# Altium schematic symbol library PersonalAltiumLibrary.SchLib: 35 symbols
Pins are listed as number, name and electrical type; pins without a type are passive.

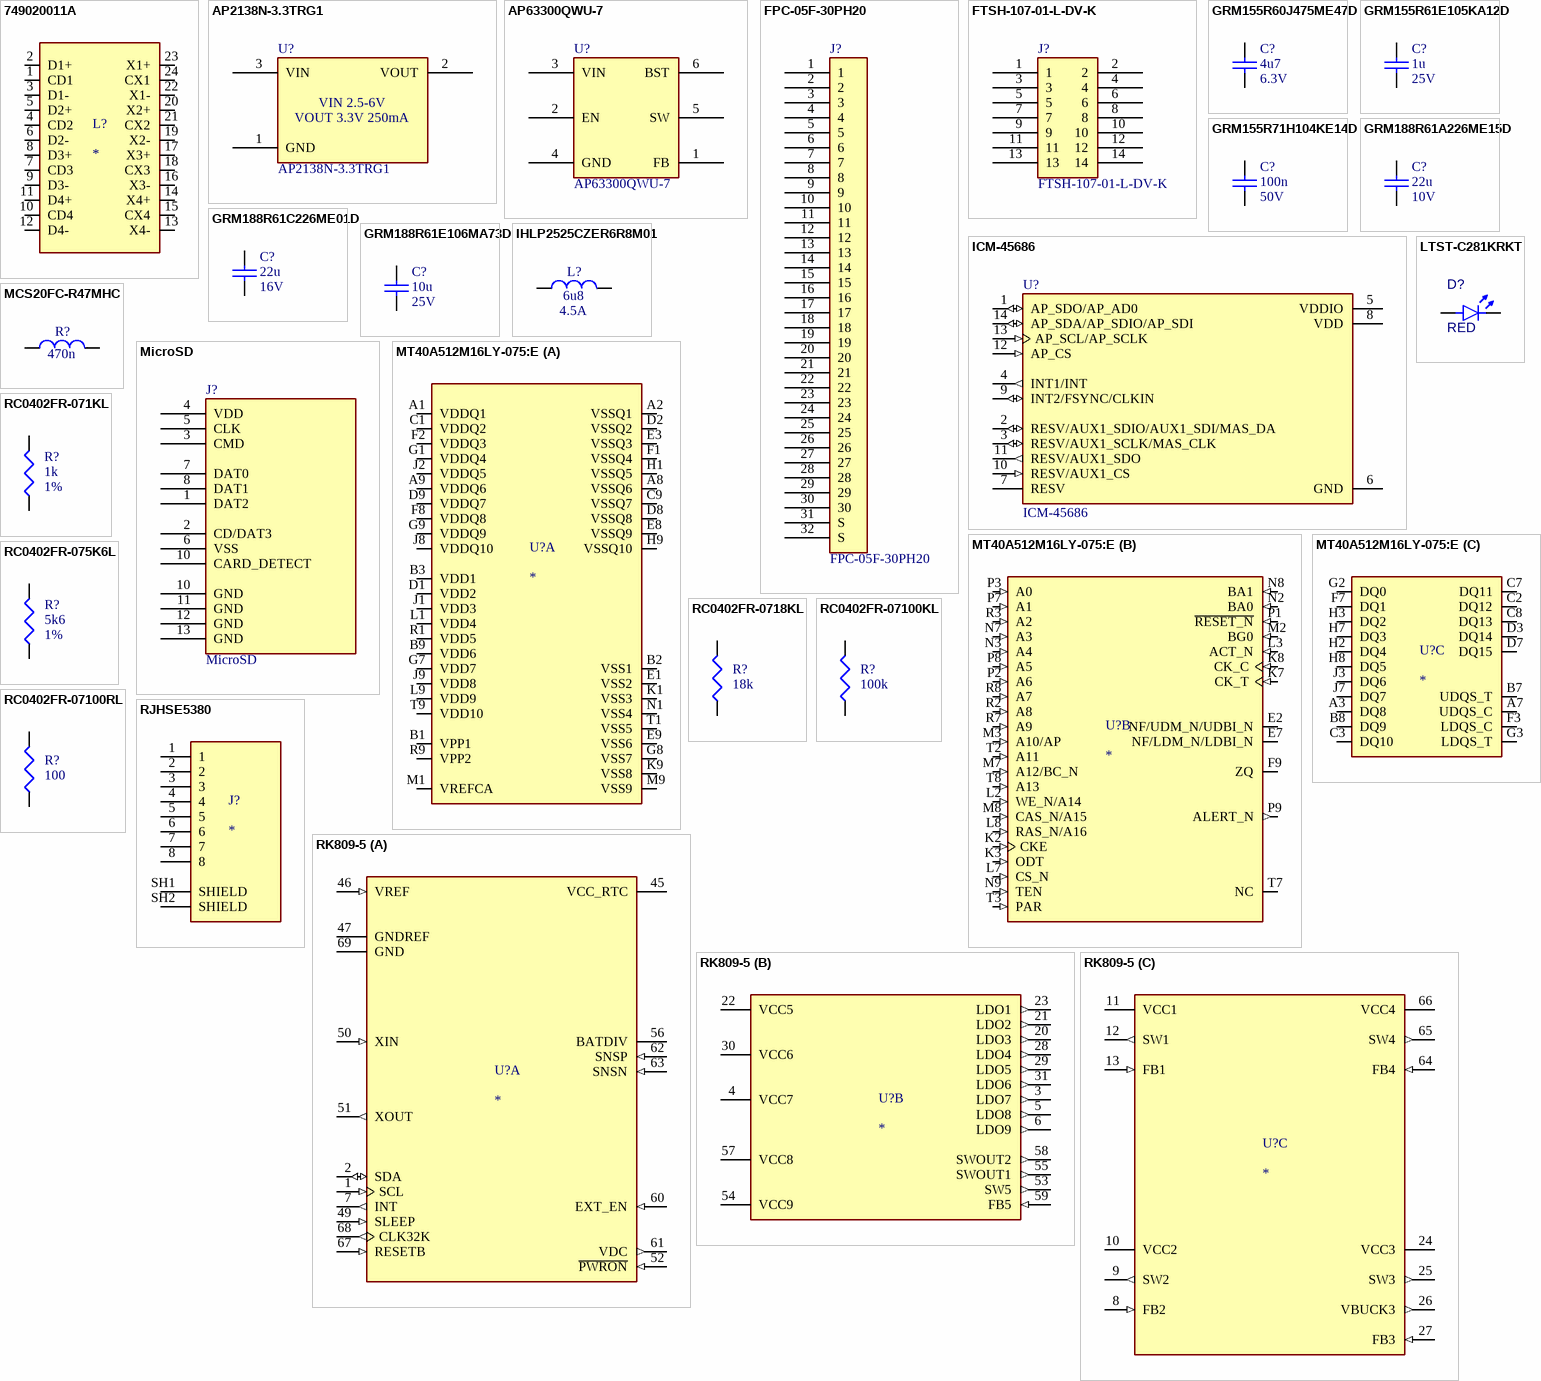
[diagram p0: symbols 749020011A to RK809-5]

## 749020011A
designator L?
1000BASE-T LAN transformer, SMD, 24pin, pitch 1.27mm, -40Â°C to +85Â°C, 1.5KVrms isolation, HPLE; MF: Wurth Electronics; MP: 749020011A; SnapEDA_Link: https://www.snapeda.com/parts/749020011A/Wurth+Electronics/view-part/?ref=snap; Package: None; Value: *; Check_prices: https://www.snapeda.com/parts/749020011A/Wurth+Electronics/view-part/?ref=eda
footprint WE-LAN_749020011A
pins: 1 CD1, 2 D1+, 3 D1-, 4 CD2, 5 D2+, 6 D2-, 7 CD3, 8 D3+, 9 D3-, 10 CD4, 11 D4+, 12 D4-, 13 X4-, 14 X4+, 15 CX4, 16 X3-, 17 X3+, 18 CX3, 19 X2-, 20 X2+, 21 CX2, 22 X1-, 23 X1+, 24 CX1

## AP2138N-3.3TRG1
designator U?
LDO 3.3V 250mA; Manufacturer Part Number 1: AP2138N-3.3TRG1
footprint AP2138N-3.3TRG1 (SOT23, 3-Leads, Body 2.9x1.3mm, Pitch 0.95mm)
pins: 1 GND, 2 VOUT, 3 VIN
text: VIN 2.5-6V; VOUT 3.3V 250mA

## AP63300QWU-7
designator U?
BUCK 3A; Manufacturer Part Number 1: AP63300QWU-7
footprint AP63300QWU-7
pins: 1 FB, 2 EN, 3 VIN, 4 GND, 5 SW, 6 BST

## FPC-05F-30PH20
designator J?
pins: 1, 2, 3, 4, 5, 6, 7, 8, 9, 10, 11, 12, 13, 14, 15, 16, 17, 18, 19, 20, 21, 22, 23, 24, 25, 26, 27, 28, 29, 30, 31 S, 32 S

## FTSH-107-01-L-DV-K
designator J?
footprint FTSH-107-01-L-DV-K
pins: 1, 2, 3, 4, 5, 6, 7, 8, 9, 10, 11, 12, 13, 14

## GRM155R60J475ME47D
designator C?  value 4u7  Voltage: 6.3V
CAP 4.7U 6.3V X5R 0402; Manufacturer Part Number 1: GRM155R60J475ME47D; Size: 0402; Dielectric: X5R
footprint GRM155R60J475ME47D (Chip Capacitor, Body 1.0x0.5mm, Height 0.6mm, IPC High Density)
pins: 1, 2

## GRM155R61E105KA12D
designator C?  value 1u  Voltage: 25V
CAP 1U 25V X5R 0402; Manufacturer Part Number 1: GRM155R61E105KA12D; Size: 0402; Dielectric: X5R
footprint GRM155R61E105KA12D (Chip Capacitor, Body 1.0x0.5mm, Height 0.6mm, IPC High Density)
pins: 1, 2

## GRM155R71H104KE14D
designator C?  value 100n  Voltage: 50V
CAP 100N 50V X7R 0402; Manufacturer Part Number 1: GRM155R71H104KE14D; Size: 0402; Dielectric: X7R
footprint GRM155R71H104KE14D (Chip Capacitor, Body 1.0x0.5mm, Height 0.6mm, IPC High Density)
pins: 1, 2

## GRM188R61A226ME15D
designator C?  value 22u  Voltage: 10V
CAP 22U 10V X5R 0603; Manufacturer Part Number 1: GRM188R61A226ME15D; Size: 0603; Dielectric: X5R
footprint GRM188R61A226ME15D (Chip Capacitor, Body 1.6x0.8mm, Height 1.0mm, IPC High Density)
pins: 1, 2

## GRM188R61C226ME01D
designator C?  value 22u  Voltage: 16V
CAP 22U 16V X5R 0603; Manufacturer Part Number 1: GRM188R61C226ME01D; Size: 0603; Dielectric: X5R
footprint GRM188R61C226ME01D (Chip Capacitor, Body 1.6x0.8mm, Height 1.0mm, IPC High Density)
pins: 1, 2

## GRM188R61E106MA73D
designator C?  value 10u  Voltage: 25V
CAP 10U 25V X5R 0603; Size: 0603; Dielectric: X5R
pins: 1, 2

## ICM-45686
designator U?
Accelerometer, Gyroscope, 6 Axis Sensor I2C, I3C, SPI Output; Manufacturer Part Number 1: ICM-45686
footprint ICM-45686
pins: 1 AP_SDO/AP_AD0 (io), 2 RESV/AUX1_SDIO/AUX1_SDI/MAS_DA (io), 3 RESV/AUX1_SCLK/MAS_CLK (io), 4 INT1/INT (out), 5 VDDIO (power), 6 GND (power), 7 RESV, 8 VDD (power), 9 INT2/FSYNC/CLKIN (io), 10 RESV/AUX1_CS (in), 11 RESV/AUX1_SDO (out), 12 AP_CS (in), 13 AP_SCL/AP_SCLK (in), 14 AP_SDA/AP_SDIO/AP_SDI (io)

## IHLP2525CZER6R8M01
designator L?  value 6u8  Current Rating: 4.5A
IND 6.8U 4.5A 60m; Manufacturer Part Number 1: IHLP2525CZER6R8M01
footprint IHLP2525CZER6R8M01
pins: 1, 2

## LTST-C281KRKT
designator D?, comment RED
LED RED; Manufacturer Part Number 1: LTST-C281KRKT; Size: 0402; Colour: RED
footprint LTST-C281KRKT (SMD, 2-Leads, Body 1x0.5mm)
pins: 1 K, 2 A

## MCS20FC-R47MHC
designator R?  value 470n
IND 470N 4.05A 0806
pins: 1, 2

## MicroSD
designator J?
pins: 1 DAT2, 2 CD/DAT3, 3 CMD, 4 VDD, 5 CLK, 6 VSS, 7 DAT0, 8 DAT1, 10 CARD_DETECT, 10 GND, 11 GND, 12 GND, 13 GND

## MT40A512M16LY-075:E
designator U?
SDRAM - DDR4 Memory IC 8Gb (512M x 16) Parallel 1.33 GHz 96-FBGA (7.5x13.5); MF: Micron Technology Inc.; MP: MT40A512M16LY-075:E; SnapEDA_Link: https://www.snapeda.com/parts/MT40A512M16LY-075:E/Micron/view-part/?ref=snap; Package: TFBGA-96 Micron Technology; Value: *; Check_prices: https://www.snapeda.com/parts/MT40A512M16LY-075:E/Micron/view-part/?ref=eda
part A pins: A1 VDDQ1 (power), A2 VSSQ1 (power), A8 VSSQ6 (power), A9 VDDQ6 (power), B1 VPP1 (power), B2 VSS1 (power), B3 VDD1 (power), B9 VDD6 (power), C1 VDDQ2 (power), C9 VSSQ7 (power), D1 VDD2 (power), D2 VSSQ2 (power), D8 VSSQ8 (power), D9 VDDQ7 (power), E1 VSS2 (power), E3 VSSQ3 (power), E8 VSSQ9 (power), E9 VSS6 (power), F1 VSSQ4 (power), F2 VDDQ3 (power), F8 VDDQ8 (power), G1 VDDQ4 (power), G7 VDD7 (power), G8 VSS7 (power), G9 VDDQ9 (power), H1 VSSQ5 (power), H9 VSSQ10 (power), J1 VDD3 (power), J2 VDDQ5 (power), J8 VDDQ10 (power), J9 VDD8 (power), K1 VSS3 (power), K9 VSS8 (power), L1 VDD4 (power), L9 VDD9 (power), M1 VREFCA (power), M9 VSS9 (power), N1 VSS4 (power), R1 VDD5 (power), R9 VPP2 (power), T1 VSS5 (power), T9 VDD10 (power)
part B pins: E2 NF/UDM_N/UDBI_N (io), E7 NF/LDM_N/LDBI_N (io), F9 ZQ, K2 CKE (in), K3 ODT (in), K7 CK_T (in), K8 CK_C (in), L2 WE_N/A14 (in), L3 ACT_N (in), L7 CS_N (in), L8 RAS_N/A16 (in), M2 BG0 (in), M3 A10/AP (in), M7 A12/BC_N (in), M8 CAS_N/A15 (in), N2 BA0 (in), N3 A4 (in), N7 A3 (in), N8 BA1 (in), N9 TEN (in), P1 ~{RESET_N} (in), P2 A6 (in), P3 A0 (in), P7 A1 (in), P8 A5 (in), P9 ALERT_N (out), R2 A8 (in), R3 A2 (in), R7 A9 (in), R8 A7 (in), T2 A11 (in), T3 PAR (in), T7 NC, T8 A13 (in)
part C pins: A3 DQ8 (io), A7 UDQS_C (io), B7 UDQS_T (io), B8 DQ9 (io), C2 DQ12 (io), C3 DQ10 (io), C7 DQ11 (io), C8 DQ13 (io), D3 DQ14 (io), D7 DQ15 (io), F3 LDQS_C (io), F7 DQ1 (io), G2 DQ0 (io), G3 LDQS_T (io), H2 DQ4 (io), H3 DQ2 (io), H7 DQ3 (io), H8 DQ5 (io), J3 DQ6 (io), J7 DQ7 (io)

## RC0402FR-071KL
designator R?  value 1k  Tolerance: 1%
RES 1k 1% 62.5mW 0402; Manufacturer Part Number 1: RC0402FR-071KL; Size: 0603
footprint RC0402FR-071KL (Chip Resistor, 2-Leads, Body 1.05x0.55mm, IPC Low Density)
pins: 1, 2

## RC0402FR-075K6L
designator R?  value 5k6  Tolerance: 1%
RES 5.6k 1% 62.5mW 0402; Manufacturer Part Number 1: RC0402FR-075K6L; Size: 0603
footprint RC0402FR-075K6L (Chip Resistor, 2-Leads, Body 1.05x0.55mm, IPC Low Density)
pins: 1, 2

## RC0402FR-0718KL
designator R?  value 18k
RES 18k 1% 62.5mW 0402; Manufacturer Part Number 1: RC0402FR-0718KL; Size: 0603
footprint RC0402FR-0718KL (Chip Resistor, 2-Leads, Body 1.05x0.55mm, IPC Low Density)
pins: 1, 2

## RC0402FR-07100KL
designator R?  value 100k
RES 100k 1% 62.5mW 0402; Manufacturer Part Number 1: RC0402FR-07100KL; Size: 0603
footprint RC0402FR-07100KL (Chip Resistor, 2-Leads, Body 1.05x0.55mm, IPC Low Density)
pins: 1, 2

## RC0402FR-07100RL
designator R?  value 100
RES 100 1% 0402; Manufacturer Part Number 1: RC0402FR-07100RL; Size: 0603
footprint RC0402FR-07100RL (Chip Resistor, 2-Leads, Body 1.05x0.55mm, IPC Low Density)
pins: 1, 2

## RJHSE5380
designator J?
MF: Amphenol; MP: RJHSE5380; Package: None; Price: None; Value: *; Availability: Unavailable
footprint AMPHENOL_RJHSE5380
pins: 1, 2, 3, 4, 5, 6, 7, 8, SH1 SHIELD, SH2 SHIELD

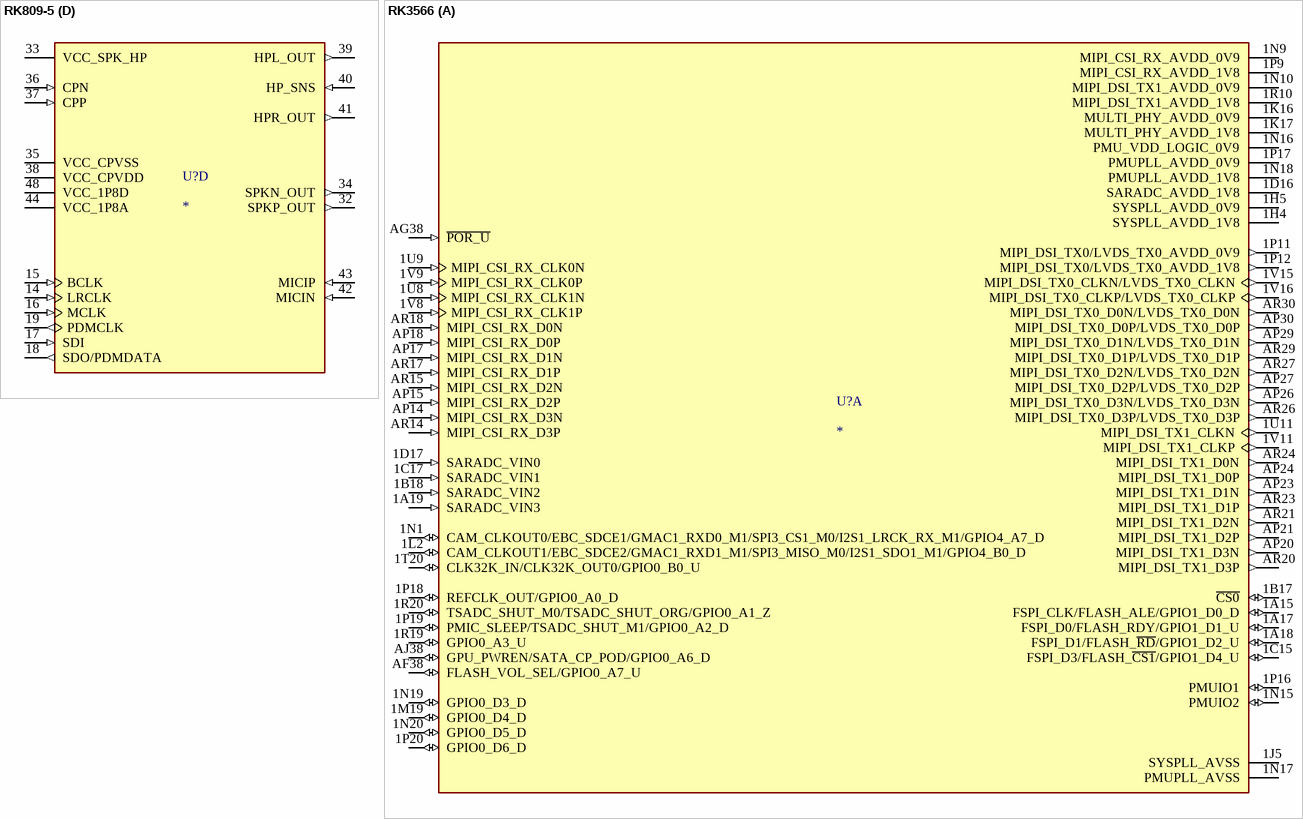
[diagram p1: symbols RK809-5 to RK3566]

## RK809-5
designator U?
Complex power-management integrated circuit (PMIC) integratedCODEC for multi-core system applications; MF: Fuzhou Rockchip Electronics Co; MP: RK809-1; SnapEDA_Link: https://www.snapeda.com/parts/RK809-1/Fuzhou+Rockchip+Electronics+Co/view-part/?ref=snap; Package: Package; Value: *; Check_prices: https://www.snapeda.com/parts/RK809-1/Fuzhou+Rockchip+Electronics+Co/view-part/?ref=eda
footprint QFN35P700X700X80-69N
part A pins: 1 SCL (in), 2 SDA (io), 7 INT (out), 45 VCC_RTC (power), 46 VREF (in), 47 GNDREF (power), 49 SLEEP (in), 50 XIN (in), 51 XOUT (out), 52 ~{PWRON} (in), 56 BATDIV (power), 60 EXT_EN (in), 61 VDC (out), 62 SNSP (in), 63 SNSN (in), 67 RESETB (in), 68 CLK32K (out), 69 GND (power)
part B pins: 3 LDO7 (out), 4 VCC7 (power), 5 LDO8 (out), 6 LDO9 (out), 20 LDO3 (out), 21 LDO2 (out), 22 VCC5 (power), 23 LDO1 (out), 28 LDO4 (out), 29 LDO5 (out), 30 VCC6 (power), 31 LDO6 (out), 53 SW5 (out), 54 VCC9 (power), 55 SWOUT1 (out), 57 VCC8 (power), 58 SWOUT2 (out), 59 FB5 (in)
part C pins: 8 FB2 (in), 9 SW2 (out), 10 VCC2 (power), 11 VCC1 (power), 12 SW1 (out), 13 FB1 (in), 24 VCC3 (power), 25 SW3 (out), 26 VBUCK3 (out), 27 FB3 (in), 64 FB4 (in), 65 SW4 (out), 66 VCC4 (power)
part D pins: 14 LRCLK (in), 15 BCLK (in), 16 MCLK (in), 17 SDI (in), 18 SDO/PDMDATA (out), 19 PDMCLK (out), 32 SPKP_OUT (out), 33 VCC_SPK_HP (power), 34 SPKN_OUT (out), 35 VCC_CPVSS (power), 36 CPN (in), 37 CPP (in), 38 VCC_CPVDD (power), 39 HPL_OUT (out), 40 HP_SNS (in), 41 HPR_OUT (out), 42 MICIN (in), 43 MICIP (in), 44 VCC_1P8A (power), 48 VCC_1P8D (power)

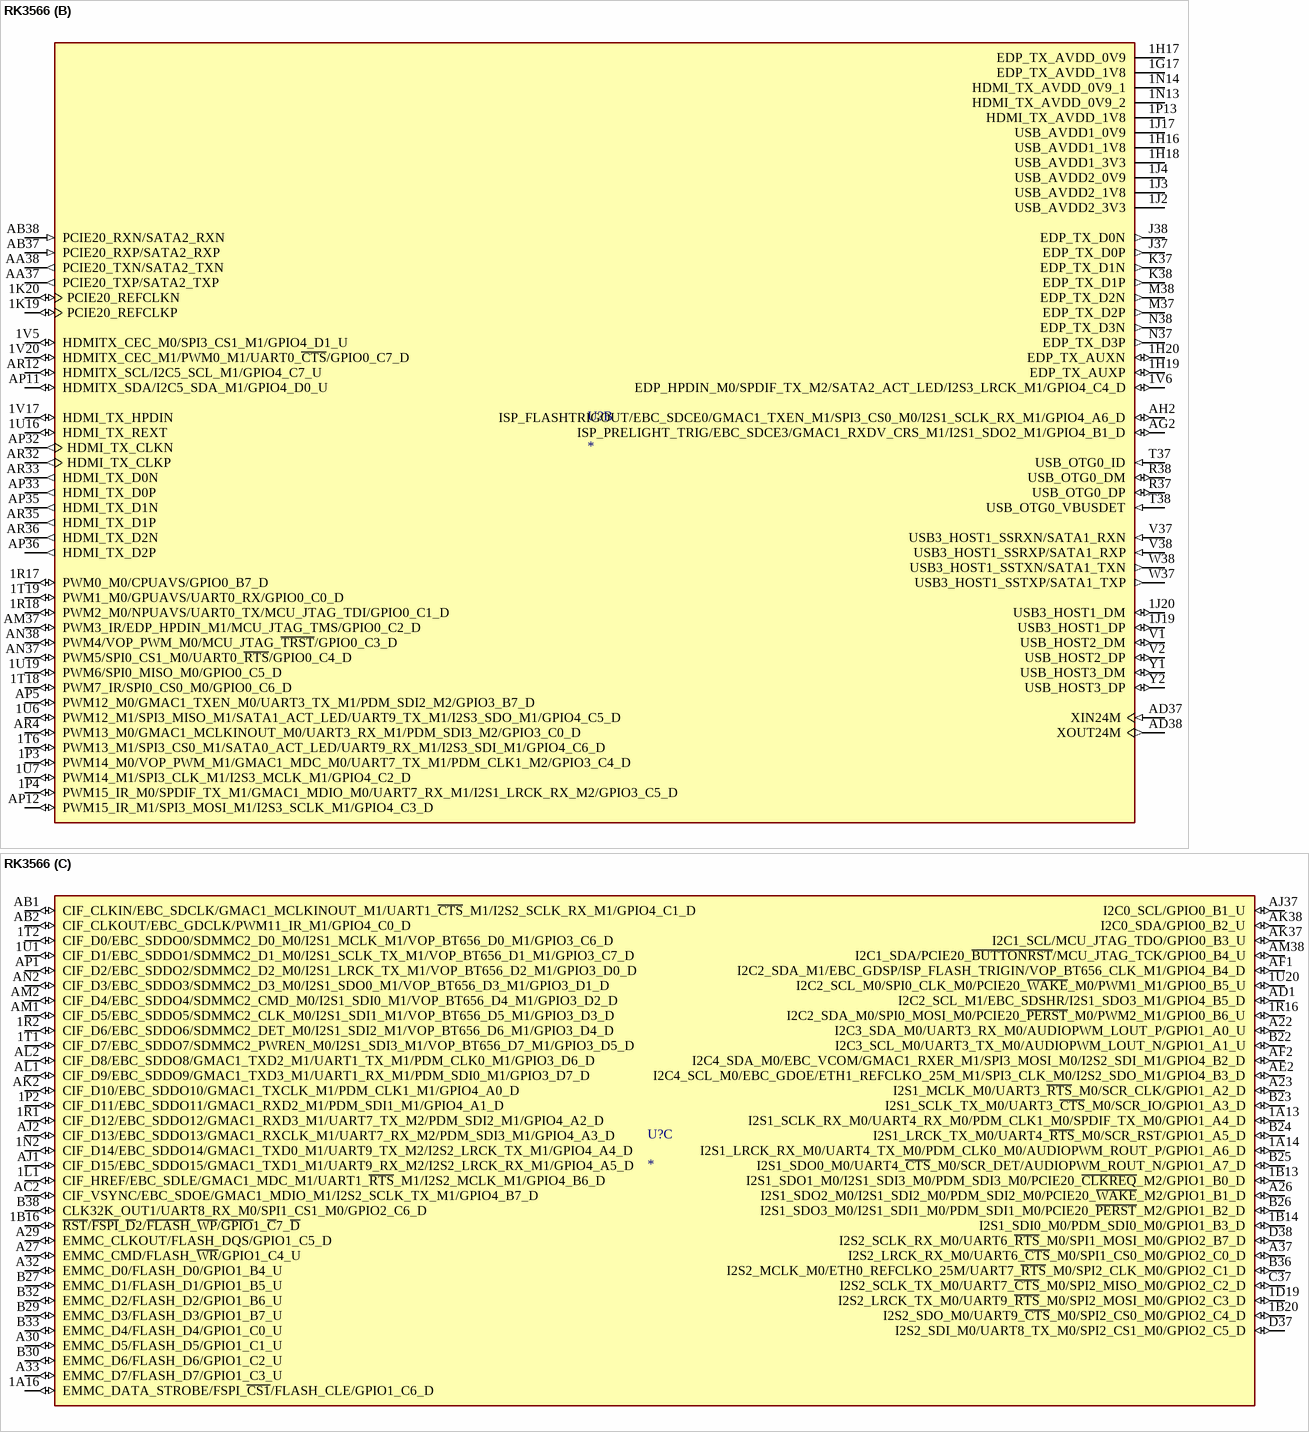
[diagram p2: symbol RK3566]

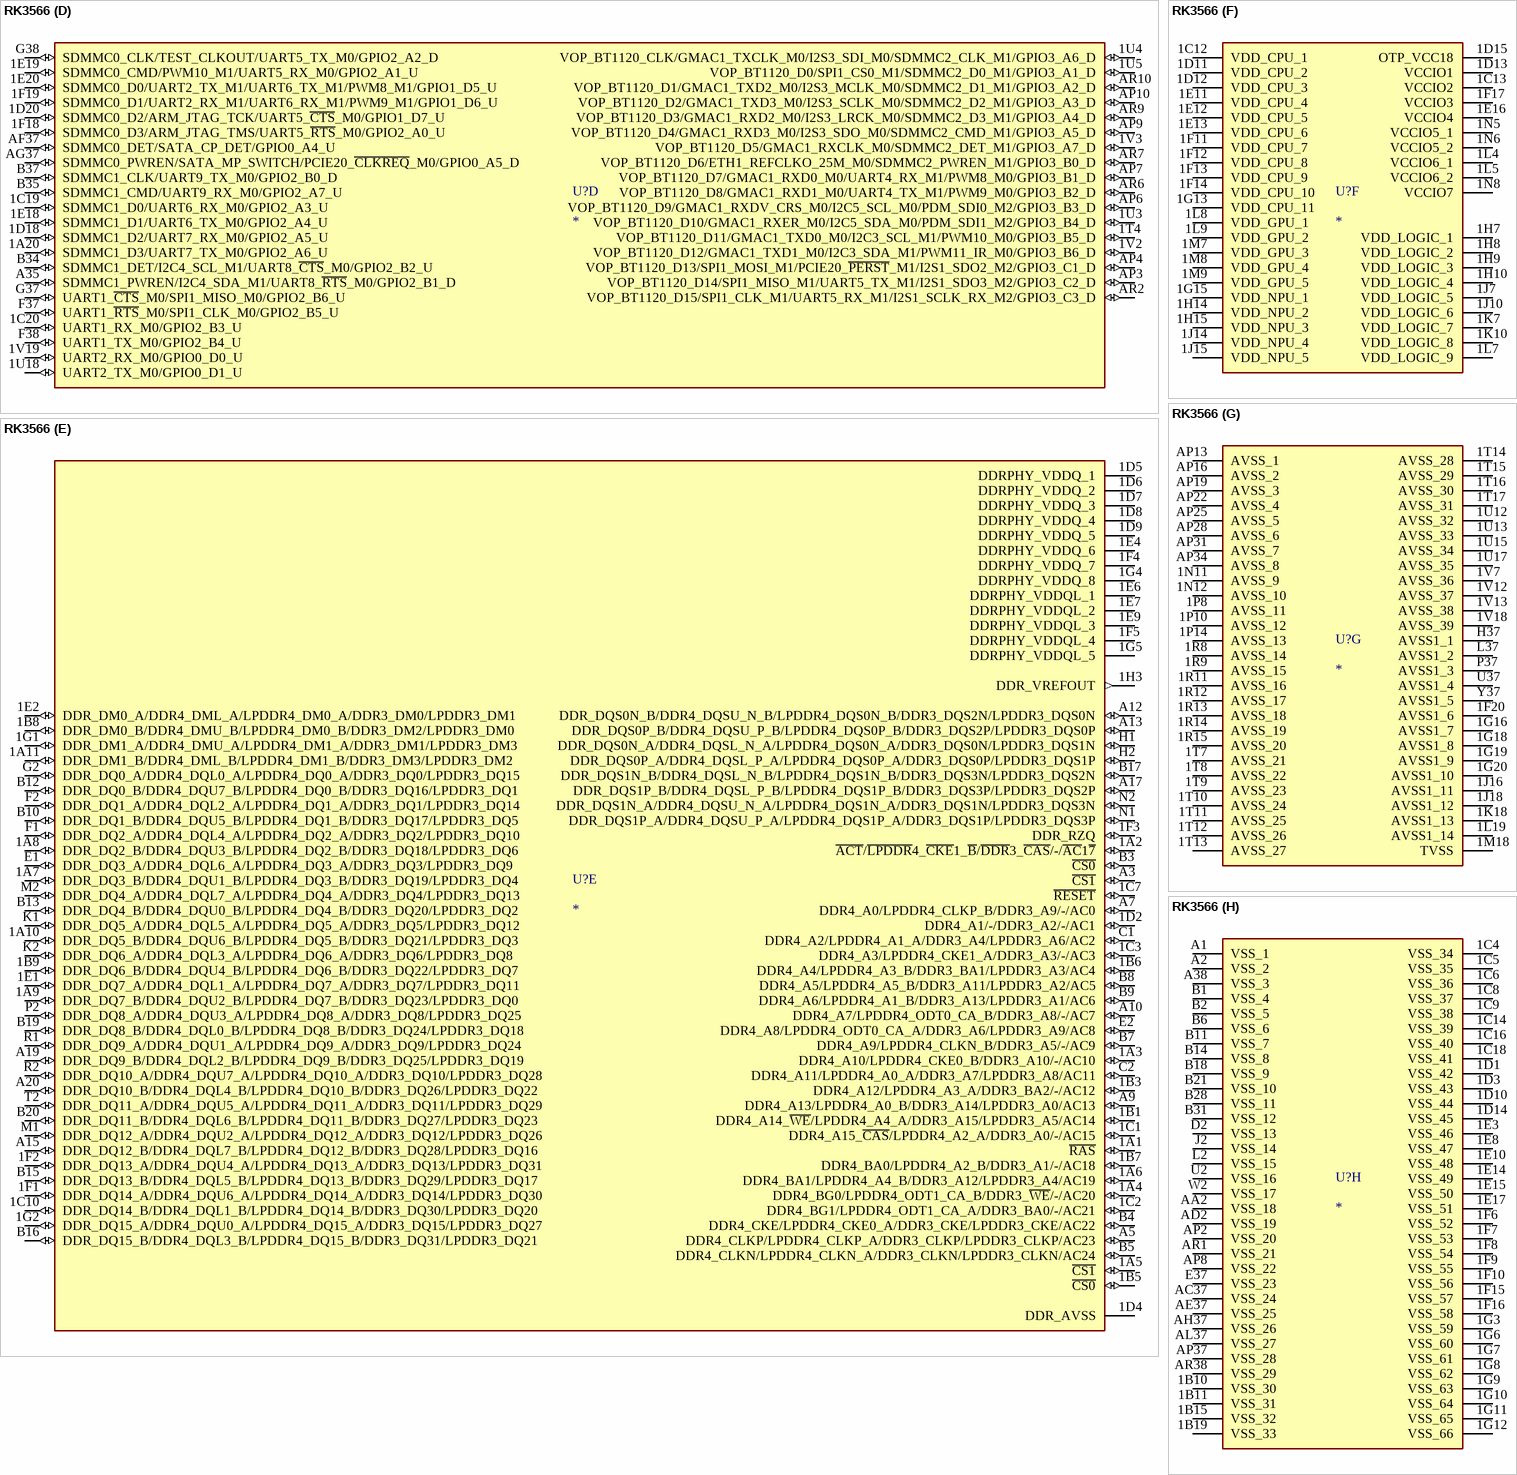
[diagram p3: symbol RK3566]

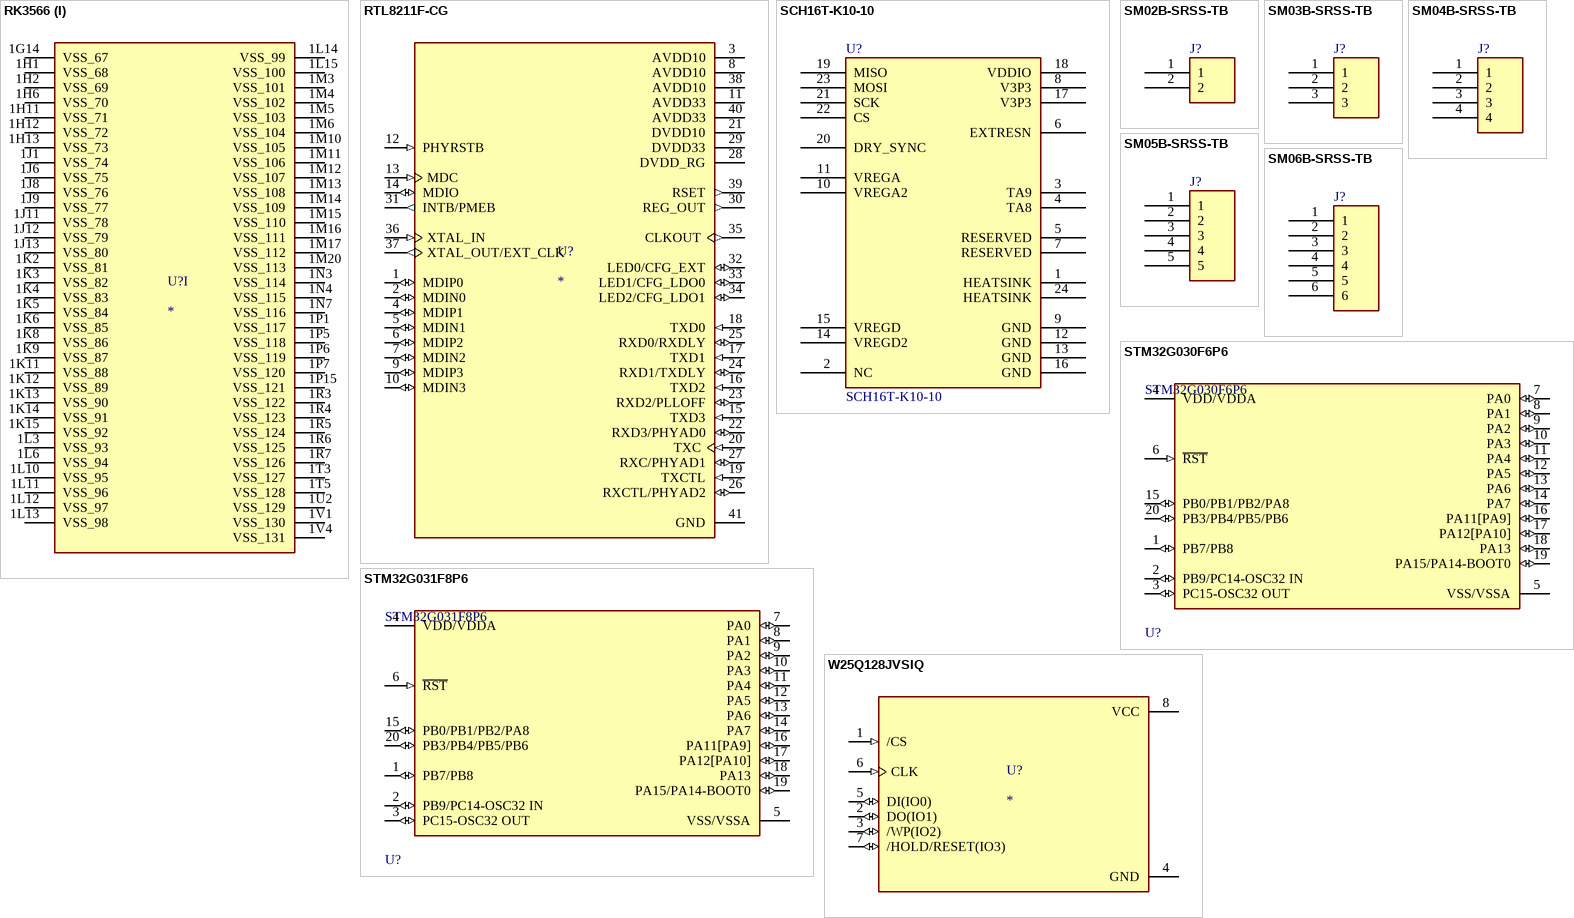
[diagram p4: symbols RK3566 to W25Q128JVSIQ]

## RK3566
designator U?
high-performance and low-power quad-core application processor; MF: Fuzhou Rockchip Electronics Co; MP: RK3566; SnapEDA_Link: https://www.snapeda.com/parts/RK3566/Fuzhou+Rockchip+Electronics+Co/view-part/?ref=snap; Package: None; Value: *; Check_prices: https://www.snapeda.com/parts/RK3566/Fuzhou+Rockchip+Electronics+Co/view-part/?ref=eda
footprint RK3566
part A pins: 1A15 FSPI_CLK/FLASH_ALE/GPIO1_D0_D (io), 1A17 FSPI_D0/FLASH_RDY/GPIO1_D1_U (io), 1A18 FSPI_D1/FLASH_~{RD}/GPIO1_D2_U (io), 1A19 SARADC_VIN3 (in), 1B17 ~{CS0} (io), 1B18 SARADC_VIN2 (in), 1C15 FSPI_D3/FLASH_~{CS1}/GPIO1_D4_U (io), 1C17 SARADC_VIN1 (in), 1D16 SARADC_AVDD_1V8 (power), 1D17 SARADC_VIN0 (in), 1H4 SYSPLL_AVDD_1V8 (power), 1H5 SYSPLL_AVDD_0V9 (power), 1J5 SYSPLL_AVSS (power), 1K16 MULTI_PHY_AVDD_0V9 (power), 1K17 MULTI_PHY_AVDD_1V8 (power), 1L2 CAM_CLKOUT1/EBC_SDCE2/GMAC1_RXD1_M1/SPI3_MISO_M0/I2S1_SDO1_M1/GPIO4_B0_D (io), 1M19 GPIO0_D4_D (io), 1N1 CAM_CLKOUT0/EBC_SDCE1/GMAC1_RXD0_M1/SPI3_CS1_M0/I2S1_LRCK_RX_M1/GPIO4_A7_D (io), 1N9 MIPI_CSI_RX_AVDD_0V9 (power), 1N10 MIPI_DSI_TX1_AVDD_0V9 (power), 1N15 PMUIO2 (io), 1N16 PMU_VDD_LOGIC_0V9 (power), 1N17 PMUPLL_AVSS (power), 1N18 PMUPLL_AVDD_1V8 (power), 1N19 GPIO0_D3_D (io), 1N20 GPIO0_D5_D (io), 1P9 MIPI_CSI_RX_AVDD_1V8 (power), 1P11 MIPI_DSI_TX0/LVDS_TX0_AVDD_0V9 (out), 1P12 MIPI_DSI_TX0/LVDS_TX0_AVDD_1V8 (out), 1P16 PMUIO1 (io), 1P17 PMUPLL_AVDD_0V9 (power), 1P18 REFCLK_OUT/GPIO0_A0_D (io), 1P19 PMIC_SLEEP/TSADC_SHUT_M1/GPIO0_A2_D (io), 1P20 GPIO0_D6_D (io), 1R10 MIPI_DSI_TX1_AVDD_1V8 (power), 1R19 GPIO0_A3_U (io), 1R20 TSADC_SHUT_M0/TSADC_SHUT_ORG/GPIO0_A1_Z (io), 1T20 CLK32K_IN/CLK32K_OUT0/GPIO0_B0_U (io), 1U8 MIPI_CSI_RX_CLK1N (in), 1U9 MIPI_CSI_RX_CLK0N (in), 1U11 MIPI_DSI_TX1_CLKN (out), 1V8 MIPI_CSI_RX_CLK1P (in), 1V9 MIPI_CSI_RX_CLK0P (in), 1V11 MIPI_DSI_TX1_CLKP (out), 1V15 MIPI_DSI_TX0_CLKN/LVDS_TX0_CLKN (out), 1V16 MIPI_DSI_TX0_CLKP/LVDS_TX0_CLKP (out), AF38 FLASH_VOL_SEL/GPIO0_A7_U (io), AG38 ~{POR_U} (in), AJ38 GPU_PWREN/SATA_CP_POD/GPIO0_A6_D (io), AP14 MIPI_CSI_RX_D3N (in), AP15 MIPI_CSI_RX_D2P (in), AP17 MIPI_CSI_RX_D1N (in), AP18 MIPI_CSI_RX_D0P (in), AP20 MIPI_DSI_TX1_D3N (out), AP21 MIPI_DSI_TX1_D2P (out), AP23 MIPI_DSI_TX1_D1N (out), AP24 MIPI_DSI_TX1_D0P (out), AP26 MIPI_DSI_TX0_D3N/LVDS_TX0_D3N (out), AP27 MIPI_DSI_TX0_D2P/LVDS_TX0_D2P (out), AP29 MIPI_DSI_TX0_D1N/LVDS_TX0_D1N (out), AP30 MIPI_DSI_TX0_D0P/LVDS_TX0_D0P (out), AR14 MIPI_CSI_RX_D3P (in), AR15 MIPI_CSI_RX_D2N (in), AR17 MIPI_CSI_RX_D1P (in), AR18 MIPI_CSI_RX_D0N (in), AR20 MIPI_DSI_TX1_D3P (out), AR21 MIPI_DSI_TX1_D2N (out), AR23 MIPI_DSI_TX1_D1P (out), AR24 MIPI_DSI_TX1_D0N (out), AR26 MIPI_DSI_TX0_D3P/LVDS_TX0_D3P (out), AR27 MIPI_DSI_TX0_D2N/LVDS_TX0_D2N (out), AR29 MIPI_DSI_TX0_D1P/LVDS_TX0_D1P (out), AR30 MIPI_DSI_TX0_D0N/LVDS_TX0_D0N (out)
part B pins: 1G17 EDP_TX_AVDD_1V8 (power), 1H16 USB_AVDD1_1V8 (power), 1H17 EDP_TX_AVDD_0V9 (power), 1H18 USB_AVDD1_3V3 (power), 1H19 EDP_TX_AUXP (io), 1H20 EDP_TX_AUXN (io), 1J2 USB_AVDD2_3V3 (power), 1J3 USB_AVDD2_1V8 (power), 1J4 USB_AVDD2_0V9 (power), 1J17 USB_AVDD1_0V9 (power), 1J19 USB3_HOST1_DP (io), 1J20 USB3_HOST1_DM (io), 1K19 PCIE20_REFCLKP (io), 1K20 PCIE20_REFCLKN (io), 1N13 HDMI_TX_AVDD_0V9_2 (power), 1N14 HDMI_TX_AVDD_0V9_1 (power), 1P3 PWM14_M0/VOP_PWM_M1/GMAC1_MDC_M0/UART7_TX_M1/PDM_CLK1_M2/GPIO3_C4_D (io), 1P4 PWM15_IR_M0/SPDIF_TX_M1/GMAC1_MDIO_M0/UART7_RX_M1/I2S1_LRCK_RX_M2/GPIO3_C5_D (io), 1P13 HDMI_TX_AVDD_1V8 (power), 1R17 PWM0_M0/CPUAVS/GPIO0_B7_D (io), 1R18 PWM2_M0/NPUAVS/UART0_TX/MCU_JTAG_TDI/GPIO0_C1_D (io), 1T6 PWM13_M1/SPI3_CS0_M1/SATA0_ACT_LED/UART9_RX_M1/I2S3_SDI_M1/GPIO4_C6_D (io), 1T18 PWM7_IR/SPI0_CS0_M0/GPIO0_C6_D (io), 1T19 PWM1_M0/GPUAVS/UART0_RX/GPIO0_C0_D (io), 1U6 PWM12_M1/SPI3_MISO_M1/SATA1_ACT_LED/UART9_TX_M1/I2S3_SDO_M1/GPIO4_C5_D (io), 1U7 PWM14_M1/SPI3_CLK_M1/I2S3_MCLK_M1/GPIO4_C2_D (io), 1U16 HDMI_TX_REXT (io), 1U19 PWM6/SPI0_MISO_M0/GPIO0_C5_D (io), 1V5 HDMITX_CEC_M0/SPI3_CS1_M1/GPIO4_D1_U (io), 1V6 EDP_HPDIN_M0/SPDIF_TX_M2/SATA2_ACT_LED/I2S3_LRCK_M1/GPIO4_C4_D (io), 1V17 HDMI_TX_HPDIN (io), 1V20 HDMITX_CEC_M1/PWM0_M1/UART0_~{CTS}/GPIO0_C7_D (io), AA37 PCIE20_TXP/SATA2_TXP (out), AA38 PCIE20_TXN/SATA2_TXN (out), AB37 PCIE20_RXP/SATA2_RXP (in), AB38 PCIE20_RXN/SATA2_RXN (in), AD37 XIN24M (in), AD38 XOUT24M (out), AG2 ISP_PRELIGHT_TRIG/EBC_SDCE3/GMAC1_RXDV_CRS_M1/I2S1_SDO2_M1/GPIO4_B1_D (io), AH2 ISP_FLASHTRIGOUT/EBC_SDCE0/GMAC1_TXEN_M1/SPI3_CS0_M0/I2S1_SCLK_RX_M1/GPIO4_A6_D (io), AM37 PWM3_IR/EDP_HPDIN_M1/MCU_JTAG_TMS/GPIO0_C2_D (io), AN37 PWM5/SPI0_CS1_M0/UART0_~{RTS}/GPIO0_C4_D (io), AN38 PWM4/VOP_PWM_M0/MCU_JTAG_~{TRST}/GPIO0_C3_D (io), AP5 PWM12_M0/GMAC1_TXEN_M0/UART3_TX_M1/PDM_SDI2_M2/GPIO3_B7_D (io), AP11 HDMITX_SDA/I2C5_SDA_M1/GPIO4_D0_U (io), AP12 PWM15_IR_M1/SPI3_MOSI_M1/I2S3_SCLK_M1/GPIO4_C3_D (io), AP32 HDMI_TX_CLKN (out), AP33 HDMI_TX_D0P (out), AP35 HDMI_TX_D1N (out), AP36 HDMI_TX_D2P (out), AR4 PWM13_M0/GMAC1_MCLKINOUT_M0/UART3_RX_M1/PDM_SDI3_M2/GPIO3_C0_D (io), AR12 HDMITX_SCL/I2C5_SCL_M1/GPIO4_C7_U (io), AR32 HDMI_TX_CLKP (out), AR33 HDMI_TX_D0N (out), AR35 HDMI_TX_D1P (out), AR36 HDMI_TX_D2N (out), J37 EDP_TX_D0P (out), J38 EDP_TX_D0N (out), K37 EDP_TX_D1N (out), K38 EDP_TX_D1P (out), M37 EDP_TX_D2P (out), M38 EDP_TX_D2N (out), N37 EDP_TX_D3P (out), N38 EDP_TX_D3N (out), R37 USB_OTG0_DP (io), R38 USB_OTG0_DM (io), T37 USB_OTG0_ID (in), T38 USB_OTG0_VBUSDET (in), V1 USB_HOST2_DM (io), V2 USB_HOST2_DP (io), V37 USB3_HOST1_SSRXN/SATA1_RXN (in), V38 USB3_HOST1_SSRXP/SATA1_RXP (in), W37 USB3_HOST1_SSTXP/SATA1_TXP (out), W38 USB3_HOST1_SSTXN/SATA1_TXN (out), Y1 USB_HOST3_DM (io), Y2 USB_HOST3_DP (io)
part C pins: 1A13 I2S1_SCLK_RX_M0/UART4_RX_M0/PDM_CLK1_M0/SPDIF_TX_M0/GPIO1_A4_D (io), 1A14 I2S1_LRCK_RX_M0/UART4_TX_M0/PDM_CLK0_M0/AUDIOPWM_ROUT_P/GPIO1_A6_D (io), 1A16 EMMC_DATA_STROBE/FSPI_~{CS1}/FLASH_CLE/GPIO1_C6_D (io), 1B13 I2S1_SDO1_M0/I2S1_SDI3_M0/PDM_SDI3_M0/PCIE20_~{CLKREQ}_M2/GPIO1_B0_D (io), 1B14 I2S1_SDI0_M0/PDM_SDI0_M0/GPIO1_B3_D (io), 1B16 ~{RST}/~{FSPI}_~{D}2/~{FLASH}_~{WP}/~{GPIO}1_~{C}7_~{D} (io), 1B20 I2S2_SDO_M0/UART9_~{CTS}_M0/SPI2_CS0_M0/GPIO2_C4_D (io), 1D19 I2S2_LRCK_TX_M0/UART9_~{RTS}_M0/SPI2_MOSI_M0/GPIO2_C3_D (io), 1L1 CIF_HREF/EBC_SDLE/GMAC1_MDC_M1/UART1_~{RTS}_M1/I2S2_MCLK_M1/GPIO4_B6_D (io), 1N2 CIF_D14/EBC_SDDO14/GMAC1_TXD0_M1/UART9_TX_M2/I2S2_LRCK_TX_M1/GPIO4_A4_D (io), 1P2 CIF_D11/EBC_SDDO11/GMAC1_RXD2_M1/PDM_SDI1_M1/GPIO4_A1_D (io), 1R1 CIF_D12/EBC_SDDO12/GMAC1_RXD3_M1/UART7_TX_M2/PDM_SDI2_M1/GPIO4_A2_D (io), 1R2 CIF_D6/EBC_SDDO6/SDMMC2_DET_M0/I2S1_SDI2_M1/VOP_BT656_D6_M1/GPIO3_D4_D (io), 1R16 I2C2_SDA_M0/SPI0_MOSI_M0/PCIE20_~{PERST}_M0/PWM2_M1/GPIO0_B6_U (io), 1T1 CIF_D7/EBC_SDDO7/SDMMC2_PWREN_M0/I2S1_SDI3_M1/VOP_BT656_D7_M1/GPIO3_D5_D (io), 1T2 CIF_D0/EBC_SDDO0/SDMMC2_D0_M0/I2S1_MCLK_M1/VOP_BT656_D0_M1/GPIO3_C6_D (io), 1U1 CIF_D1/EBC_SDDO1/SDMMC2_D1_M0/I2S1_SCLK_TX_M1/VOP_BT656_D1_M1/GPIO3_C7_D (io), 1U20 I2C2_SCL_M0/SPI0_CLK_M0/PCIE20_~{WAKE}_M0/PWM1_M1/GPIO0_B5_U (io), A22 I2C3_SDA_M0/UART3_RX_M0/AUDIOPWM_LOUT_P/GPIO1_A0_U (io), A23 I2S1_MCLK_M0/UART3_~{RTS}_M0/SCR_CLK/GPIO1_A2_D (io), A26 I2S1_SDO2_M0/I2S1_SDI2_M0/PDM_SDI2_M0/PCIE20_~{WAKE}_M2/GPIO1_B1_D (io), A27 EMMC_CMD/FLASH_~{WR}/GPIO1_C4_U (io), A29 EMMC_CLKOUT/FLASH_DQS/GPIO1_C5_D (io), A30 EMMC_D5/FLASH_D5/GPIO1_C1_U (io), A32 EMMC_D0/FLASH_D0/GPIO1_B4_U (io), A33 EMMC_D7/FLASH_D7/GPIO1_C3_U (io), A37 I2S2_LRCK_RX_M0/UART6_~{CTS}_M0/SPI1_CS0_M0/GPIO2_C0_D (io), AB1 CIF_CLKIN/EBC_SDCLK/GMAC1_MCLKINOUT_M1/UART1_~{CTS}_M1/I2S2_SCLK_RX_M1/GPIO4_C1_D (io), AB2 CIF_CLKOUT/EBC_GDCLK/PWM11_IR_M1/GPIO4_C0_D (io), AC2 CIF_VSYNC/EBC_SDOE/GMAC1_MDIO_M1/I2S2_SCLK_TX_M1/GPIO4_B7_D (io), AD1 I2C2_SCL_M1/EBC_SDSHR/I2S1_SDO3_M1/GPIO4_B5_D (io), AE2 I2C4_SCL_M0/EBC_GDOE/ETH1_REFCLKO_25M_M1/SPI3_CLK_M0/I2S2_SDO_M1/GPIO4_B3_D (io), AF1 I2C2_SDA_M1/EBC_GDSP/ISP_FLASH_TRIGIN/VOP_BT656_CLK_M1/GPIO4_B4_D (io), AF2 I2C4_SDA_M0/EBC_VCOM/GMAC1_RXER_M1/SPI3_MOSI_M0/I2S2_SDI_M1/GPIO4_B2_D (io), AJ1 CIF_D15/EBC_SDDO15/GMAC1_TXD1_M1/UART9_RX_M2/I2S2_LRCK_RX_M1/GPIO4_A5_D (io), AJ2 CIF_D13/EBC_SDDO13/GMAC1_RXCLK_M1/UART7_RX_M2/PDM_SDI3_M1/GPIO4_A3_D (io), AJ37 I2C0_SCL/GPIO0_B1_U (io), AK2 CIF_D10/EBC_SDDO10/GMAC1_TXCLK_M1/PDM_CLK1_M1/GPIO4_A0_D (io), AK37 I2C1_SCL/MCU_JTAG_TDO/GPIO0_B3_U (io), AK38 I2C0_SDA/GPIO0_B2_U (io), AL1 CIF_D9/EBC_SDDO9/GMAC1_TXD3_M1/UART1_RX_M1/PDM_SDI0_M1/GPIO3_D7_D (io), AL2 CIF_D8/EBC_SDDO8/GMAC1_TXD2_M1/UART1_TX_M1/PDM_CLK0_M1/GPIO3_D6_D (io), AM1 CIF_D5/EBC_SDDO5/SDMMC2_CLK_M0/I2S1_SDI1_M1/VOP_BT656_D5_M1/GPIO3_D3_D (io), AM2 CIF_D4/EBC_SDDO4/SDMMC2_CMD_M0/I2S1_SDI0_M1/VOP_BT656_D4_M1/GPIO3_D2_D (io), AM38 I2C1_SDA/PCIE20_~{BUTTONRST}/MCU_JTAG_TCK/GPIO0_B4_U (io), AN2 CIF_D3/EBC_SDDO3/SDMMC2_D3_M0/I2S1_SDO0_M1/VOP_BT656_D3_M1/GPIO3_D1_D (io), AP1 CIF_D2/EBC_SDDO2/SDMMC2_D2_M0/I2S1_LRCK_TX_M1/VOP_BT656_D2_M1/GPIO3_D0_D (io), B22 I2C3_SCL_M0/UART3_TX_M0/AUDIOPWM_LOUT_N/GPIO1_A1_U (io), B23 I2S1_SCLK_TX_M0/UART3_~{CTS}_M0/SCR_IO/GPIO1_A3_D (io), B24 I2S1_LRCK_TX_M0/UART4_~{RTS}_M0/SCR_RST/GPIO1_A5_D (io), B25 I2S1_SDO0_M0/UART4_~{CTS}_M0/SCR_DET/AUDIOPWM_ROUT_N/GPIO1_A7_D (io), B26 I2S1_SDO3_M0/I2S1_SDI1_M0/PDM_SDI1_M0/PCIE20_~{PERST}_M2/GPIO1_B2_D (io), B27 EMMC_D1/FLASH_D1/GPIO1_B5_U (io), B29 EMMC_D3/FLASH_D3/GPIO1_B7_U (io), B30 EMMC_D6/FLASH_D6/GPIO1_C2_U (io), B32 EMMC_D2/FLASH_D2/GPIO1_B6_U (io), B33 EMMC_D4/FLASH_D4/GPIO1_C0_U (io), B36 I2S2_MCLK_M0/ETH0_REFCLKO_25M/UART7_~{RTS}_M0/SPI2_CLK_M0/GPIO2_C1_D (io), B38 CLK32K_OUT1/UART8_RX_M0/SPI1_CS1_M0/GPIO2_C6_D (io), C37 I2S2_SCLK_TX_M0/UART7_~{CTS}_M0/SPI2_MISO_M0/GPIO2_C2_D (io), D37 I2S2_SDI_M0/UART8_TX_M0/SPI2_CS1_M0/GPIO2_C5_D (io), D38 I2S2_SCLK_RX_M0/UART6_~{RTS}_M0/SPI1_MOSI_M0/GPIO2_B7_D (io)
part D pins: 1A20 SDMMC1_D3/UART7_TX_M0/GPIO2_A6_U (io), 1C19 SDMMC1_D0/UART6_RX_M0/GPIO2_A3_U (io), 1C20 UART1_RX_M0/GPIO2_B3_U (io), 1D18 SDMMC1_D2/UART7_RX_M0/GPIO2_A5_U (io), 1D20 SDMMC0_D2/ARM_JTAG_TCK/UART5_~{CTS}_M0/GPIO1_D7_U (io), 1E18 SDMMC1_D1/UART6_TX_M0/GPIO2_A4_U (io), 1E19 SDMMC0_CMD/PWM10_M1/UART5_RX_M0/GPIO2_A1_U (io), 1E20 SDMMC0_D0/UART2_TX_M1/UART6_TX_M1/PWM8_M1/GPIO1_D5_U (io), 1F18 SDMMC0_D3/ARM_JTAG_TMS/UART5_~{RTS}_M0/GPIO2_A0_U (io), 1F19 SDMMC0_D1/UART2_RX_M1/UART6_RX_M1/PWM9_M1/GPIO1_D6_U (io), 1T4 VOP_BT1120_D11/GMAC1_TXD0_M0/I2C3_SCL_M1/PWM10_M0/GPIO3_B5_D (io), 1U3 VOP_BT1120_D10/GMAC1_RXER_M0/I2C5_SDA_M0/PDM_SDI1_M2/GPIO3_B4_D (io), 1U4 VOP_BT1120_CLK/GMAC1_TXCLK_M0/I2S3_SDI_M0/SDMMC2_CLK_M1/GPIO3_A6_D (io), 1U5 VOP_BT1120_D0/SPI1_CS0_M1/SDMMC2_D0_M1/GPIO3_A1_D (io), 1U18 UART2_TX_M0/GPIO0_D1_U (io), 1V2 VOP_BT1120_D12/GMAC1_TXD1_M0/I2C3_SDA_M1/PWM11_IR_M0/GPIO3_B6_D (io), 1V3 VOP_BT1120_D5/GMAC1_RXCLK_M0/SDMMC2_DET_M1/GPIO3_A7_D (io), 1V19 UART2_RX_M0/GPIO0_D0_U (io), A35 SDMMC1_PWREN/I2C4_SDA_M1/UART8_~{RTS}_M0/GPIO2_B1_D (io), AF37 SDMMC0_DET/SATA_CP_DET/GPIO0_A4_U (io), AG37 SDMMC0_PWREN/SATA_MP_SWITCH/PCIE20_~{CLKREQ}_M0/GPIO0_A5_D (io), AP3 VOP_BT1120_D14/SPI1_MISO_M1/UART5_TX_M1/I2S1_SDO3_M2/GPIO3_C2_D (io), AP4 VOP_BT1120_D13/SPI1_MOSI_M1/PCIE20_~{PERST}_M1/I2S1_SDO2_M2/GPIO3_C1_D (io), AP6 VOP_BT1120_D9/GMAC1_RXDV_CRS_M0/I2C5_SCL_M0/PDM_SDI0_M2/GPIO3_B3_D (io), AP7 VOP_BT1120_D7/GMAC1_RXD0_M0/UART4_RX_M1/PWM8_M0/GPIO3_B1_D (io), AP9 VOP_BT1120_D4/GMAC1_RXD3_M0/I2S3_SDO_M0/SDMMC2_CMD_M1/GPIO3_A5_D (io), AP10 VOP_BT1120_D2/GMAC1_TXD3_M0/I2S3_SCLK_M0/SDMMC2_D2_M1/GPIO3_A3_D (io), AR2 VOP_BT1120_D15/SPI1_CLK_M1/UART5_RX_M1/I2S1_SCLK_RX_M2/GPIO3_C3_D (io), AR6 VOP_BT1120_D8/GMAC1_RXD1_M0/UART4_TX_M1/PWM9_M0/GPIO3_B2_D (io), AR7 VOP_BT1120_D6/ETH1_REFCLKO_25M_M0/SDMMC2_PWREN_M1/GPIO3_B0_D (io), AR9 VOP_BT1120_D3/GMAC1_RXD2_M0/I2S3_LRCK_M0/SDMMC2_D3_M1/GPIO3_A4_D (io), AR10 VOP_BT1120_D1/GMAC1_TXD2_M0/I2S3_MCLK_M0/SDMMC2_D1_M1/GPIO3_A2_D (io), B34 SDMMC1_DET/I2C4_SCL_M1/UART8_~{CTS}_M0/GPIO2_B2_U (io), B35 SDMMC1_CMD/UART9_RX_M0/GPIO2_A7_U (io), B37 SDMMC1_CLK/UART9_TX_M0/GPIO2_B0_D (io), F37 UART1_~{RTS}_M0/SPI1_CLK_M0/GPIO2_B5_U (io), F38 UART1_TX_M0/GPIO2_B4_U (io), G37 UART1_~{CTS}_M0/SPI1_MISO_M0/GPIO2_B6_U (io), G38 SDMMC0_CLK/TEST_CLKOUT/UART5_TX_M0/GPIO2_A2_D (io)
part E pins: 1A1 ~{RAS} (io), 1A2 ~{ACT}/~{LPDDR}4_~{CKE}1_~{B}/~{DDR}3_~{CAS}/-/~{AC}1~{7} (io), 1A3 DDR4_A10/LPDDR4_CKE0_B/DDR3_A10/-/AC10 (io), 1A4 DDR4_BG0/LPDDR4_ODT1_CA_B/DDR3_~{WE}/-/AC20 (io), 1A5 ~{CS1} (io), 1A6 DDR4_BA1/LPDDR4_A4_B/DDR3_A12/LPDDR3_A4/AC19 (io), 1A7 DDR_DQ3_B/DDR4_DQU1_B/LPDDR4_DQ3_B/DDR3_DQ19/LPDDR3_DQ4 (io), 1A8 DDR_DQ2_B/DDR4_DQU3_B/LPDDR4_DQ2_B/DDR3_DQ18/LPDDR3_DQ6 (io), 1A9 DDR_DQ7_B/DDR4_DQU2_B/LPDDR4_DQ7_B/DDR3_DQ23/LPDDR3_DQ0 (io), 1A10 DDR_DQ5_B/DDR4_DQU6_B/LPDDR4_DQ5_B/DDR3_DQ21/LPDDR3_DQ3 (io), 1A11 DDR_DM1_B/DDR4_DML_B/LPDDR4_DM1_B/DDR3_DM3/LPDDR3_DM2 (io), 1B1 DDR4_A14_~{WE}/LPDDR4_A4_A/DDR3_A15/LPDDR3_A5/AC14 (io), 1B3 DDR4_A12/LPDDR4_A3_A/DDR3_BA2/-/AC12 (io), 1B5 ~{CS0} (io), 1B6 DDR4_A4/LPDDR4_A3_B/DDR3_BA1/LPDDR3_A3/AC4 (io), 1B7 DDR4_BA0/LPDDR4_A2_B/DDR3_A1/-/AC18 (io), 1B8 DDR_DM0_B/DDR4_DMU_B/LPDDR4_DM0_B/DDR3_DM2/LPDDR3_DM0 (io), 1B9 DDR_DQ6_B/DDR4_DQU4_B/LPDDR4_DQ6_B/DDR3_DQ22/LPDDR3_DQ7 (io), 1C1 DDR4_A15_~{CAS}/LPDDR4_A2_A/DDR3_A0/-/AC15 (io), 1C2 DDR4_BG1/LPDDR4_ODT1_CA_A/DDR3_BA0/-/AC21 (io), 1C3 DDR4_A3/LPDDR4_CKE1_A/DDR3_A3/-/AC3 (io), 1C7 ~{RESET} (io), 1C10 DDR_DQ14_B/DDR4_DQL1_B/LPDDR4_DQ14_B/DDR3_DQ30/LPDDR3_DQ20 (io), 1D2 DDR4_A1/-/DDR3_A2/-/AC1 (io), 1D4 DDR_AVSS (power), 1D5 DDRPHY_VDDQ_1 (power), 1D6 DDRPHY_VDDQ_2 (power), 1D7 DDRPHY_VDDQ_3 (power), 1D8 DDRPHY_VDDQ_4 (power), 1D9 DDRPHY_VDDQ_5 (power), 1E1 DDR_DQ7_A/DDR4_DQL1_A/LPDDR4_DQ7_A/DDR3_DQ7/LPDDR3_DQ11 (io), 1E2 DDR_DM0_A/DDR4_DML_A/LPDDR4_DM0_A/DDR3_DM0/LPDDR3_DM1 (io), 1E4 DDRPHY_VDDQ_6 (power), 1E6 DDRPHY_VDDQL_1 (power), 1E7 DDRPHY_VDDQL_2 (power), 1E9 DDRPHY_VDDQL_3 (power), 1F1 DDR_DQ14_A/DDR4_DQU6_A/LPDDR4_DQ14_A/DDR3_DQ14/LPDDR3_DQ30 (io), 1F2 DDR_DQ13_A/DDR4_DQU4_A/LPDDR4_DQ13_A/DDR3_DQ13/LPDDR3_DQ31 (io), 1F3 DDR_RZQ (io), 1F4 DDRPHY_VDDQ_7 (power), 1F5 DDRPHY_VDDQL_4 (power), 1G1 DDR_DM1_A/DDR4_DMU_A/LPDDR4_DM1_A/DDR3_DM1/LPDDR3_DM3 (io), 1G2 DDR_DQ15_A/DDR4_DQU0_A/LPDDR4_DQ15_A/DDR3_DQ15/LPDDR3_DQ27 (io), 1G4 DDRPHY_VDDQ_8 (power), 1G5 DDRPHY_VDDQL_5 (power), 1H3 DDR_VREFOUT (out), A3 ~{CS1} (io), A5 DDR4_CLKP/LPDDR4_CLKP_A/DDR3_CLKP/LPDDR3_CLKP/AC23 (io), A7 DDR4_A0/LPDDR4_CLKP_B/DDR3_A9/-/AC0 (io), A9 DDR4_A13/LPDDR4_A0_B/DDR3_A14/LPDDR3_A0/AC13 (io), A10 DDR4_A7/LPDDR4_ODT0_CA_B/DDR3_A8/-/AC7 (io), A12 DDR_DQS0N_B/DDR4_DQSU_N_B/LPDDR4_DQS0N_B/DDR3_DQS2N/LPDDR3_DQS0N (io), A13 DDR_DQS0P_B/DDR4_DQSU_P_B/LPDDR4_DQS0P_B/DDR3_DQS2P/LPDDR3_DQS0P (io), A15 DDR_DQ12_B/DDR4_DQL7_B/LPDDR4_DQ12_B/DDR3_DQ28/LPDDR3_DQ16 (io), A17 DDR_DQS1P_B/DDR4_DQSL_P_B/LPDDR4_DQS1P_B/DDR3_DQS3P/LPDDR3_DQS2P (io), A19 DDR_DQ9_B/DDR4_DQL2_B/LPDDR4_DQ9_B/DDR3_DQ25/LPDDR3_DQ19 (io), A20 DDR_DQ10_B/DDR4_DQL4_B/LPDDR4_DQ10_B/DDR3_DQ26/LPDDR3_DQ22 (io), B3 ~{CS0} (io), B4 DDR4_CKE/LPDDR4_CKE0_A/DDR3_CKE/LPDDR3_CKE/AC22 (io), B5 DDR4_CLKN/LPDDR4_CLKN_A/DDR3_CLKN/LPDDR3_CLKN/AC24 (io), B7 DDR4_A9/LPDDR4_CLKN_B/DDR3_A5/-/AC9 (io), B8 DDR4_A5/LPDDR4_A5_B/DDR3_A11/LPDDR3_A2/AC5 (io), B9 DDR4_A6/LPDDR4_A1_B/DDR3_A13/LPDDR3_A1/AC6 (io), B10 DDR_DQ1_B/DDR4_DQU5_B/LPDDR4_DQ1_B/DDR3_DQ17/LPDDR3_DQ5 (io), B12 DDR_DQ0_B/DDR4_DQU7_B/LPDDR4_DQ0_B/DDR3_DQ16/LPDDR3_DQ1 (io), B13 DDR_DQ4_B/DDR4_DQU0_B/LPDDR4_DQ4_B/DDR3_DQ20/LPDDR3_DQ2 (io), B15 DDR_DQ13_B/DDR4_DQL5_B/LPDDR4_DQ13_B/DDR3_DQ29/LPDDR3_DQ17 (io), B16 DDR_DQ15_B/DDR4_DQL3_B/LPDDR4_DQ15_B/DDR3_DQ31/LPDDR3_DQ21 (io), B17 DDR_DQS1N_B/DDR4_DQSL_N_B/LPDDR4_DQS1N_B/DDR3_DQS3N/LPDDR3_DQS2N (io), B19 DDR_DQ8_B/DDR4_DQL0_B/LPDDR4_DQ8_B/DDR3_DQ24/LPDDR3_DQ18 (io), B20 DDR_DQ11_B/DDR4_DQL6_B/LPDDR4_DQ11_B/DDR3_DQ27/LPDDR3_DQ23 (io), C1 DDR4_A2/LPDDR4_A1_A/DDR3_A4/LPDDR3_A6/AC2 (io), C2 DDR4_A11/LPDDR4_A0_A/DDR3_A7/LPDDR3_A8/AC11 (io), E1 DDR_DQ3_A/DDR4_DQL6_A/LPDDR4_DQ3_A/DDR3_DQ3/LPDDR3_DQ9 (io), E2 DDR4_A8/LPDDR4_ODT0_CA_A/DDR3_A6/LPDDR3_A9/AC8 (io), F1 DDR_DQ2_A/DDR4_DQL4_A/LPDDR4_DQ2_A/DDR3_DQ2/LPDDR3_DQ10 (io), F2 DDR_DQ1_A/DDR4_DQL2_A/LPDDR4_DQ1_A/DDR3_DQ1/LPDDR3_DQ14 (io), G2 DDR_DQ0_A/DDR4_DQL0_A/LPDDR4_DQ0_A/DDR3_DQ0/LPDDR3_DQ15 (io), H1 DDR_DQS0N_A/DDR4_DQSL_N_A/LPDDR4_DQS0N_A/DDR3_DQS0N/LPDDR3_DQS1N (io), H2 DDR_DQS0P_A/DDR4_DQSL_P_A/LPDDR4_DQS0P_A/DDR3_DQS0P/LPDDR3_DQS1P (io), K1 DDR_DQ5_A/DDR4_DQL5_A/LPDDR4_DQ5_A/DDR3_DQ5/LPDDR3_DQ12 (io), K2 DDR_DQ6_A/DDR4_DQL3_A/LPDDR4_DQ6_A/DDR3_DQ6/LPDDR3_DQ8 (io), M1 DDR_DQ12_A/DDR4_DQU2_A/LPDDR4_DQ12_A/DDR3_DQ12/LPDDR3_DQ26 (io), M2 DDR_DQ4_A/DDR4_DQL7_A/LPDDR4_DQ4_A/DDR3_DQ4/LPDDR3_DQ13 (io), N1 DDR_DQS1P_A/DDR4_DQSU_P_A/LPDDR4_DQS1P_A/DDR3_DQS1P/LPDDR3_DQS3P (io), N2 DDR_DQS1N_A/DDR4_DQSU_N_A/LPDDR4_DQS1N_A/DDR3_DQS1N/LPDDR3_DQS3N (io), P2 DDR_DQ8_A/DDR4_DQU3_A/LPDDR4_DQ8_A/DDR3_DQ8/LPDDR3_DQ25 (io), R1 DDR_DQ9_A/DDR4_DQU1_A/LPDDR4_DQ9_A/DDR3_DQ9/LPDDR3_DQ24 (io), R2 DDR_DQ10_A/DDR4_DQU7_A/LPDDR4_DQ10_A/DDR3_DQ10/LPDDR3_DQ28 (io), T2 DDR_DQ11_A/DDR4_DQU5_A/LPDDR4_DQ11_A/DDR3_DQ11/LPDDR3_DQ29 (io)
part F pins: 1C12 VDD_CPU_1 (power), 1C13 VCCIO2 (power), 1D11 VDD_CPU_2 (power), 1D12 VDD_CPU_3 (power), 1D13 VCCIO1 (power), 1D15 OTP_VCC18 (power), 1E11 VDD_CPU_4 (power), 1E12 VDD_CPU_5 (power), 1E13 VDD_CPU_6 (power), 1E16 VCCIO4 (power), 1F11 VDD_CPU_7 (power), 1F12 VDD_CPU_8 (power), 1F13 VDD_CPU_9 (power), 1F14 VDD_CPU_10 (power), 1F17 VCCIO3 (power), 1G13 VDD_CPU_11 (power), 1G15 VDD_NPU_1 (power), 1H7 VDD_LOGIC_1 (power), 1H8 VDD_LOGIC_2 (power), 1H9 VDD_LOGIC_3 (power), 1H10 VDD_LOGIC_4 (power), 1H14 VDD_NPU_2 (power), 1H15 VDD_NPU_3 (power), 1J7 VDD_LOGIC_5 (power), 1J10 VDD_LOGIC_6 (power), 1J14 VDD_NPU_4 (power), 1J15 VDD_NPU_5 (power), 1K7 VDD_LOGIC_7 (power), 1K10 VDD_LOGIC_8 (power), 1L4 VCCIO6_1 (power), 1L5 VCCIO6_2 (power), 1L7 VDD_LOGIC_9 (power), 1L8 VDD_GPU_1 (power), 1L9 VDD_GPU_2 (power), 1M7 VDD_GPU_3 (power), 1M8 VDD_GPU_4 (power), 1M9 VDD_GPU_5 (power), 1N5 VCCIO5_1 (power), 1N6 VCCIO5_2 (power), 1N8 VCCIO7 (power)
part G pins: 1F20 AVSS1_6 (power), 1G16 AVSS1_7 (power), 1G18 AVSS1_8 (power), 1G19 AVSS1_9 (power), 1G20 AVSS1_10 (power), 1J16 AVSS1_11 (power), 1J18 AVSS1_12 (power), 1K18 AVSS1_13 (power), 1L19 AVSS1_14 (power), 1M18 TVSS (power), 1N11 AVSS_9 (power), 1N12 AVSS_10 (power), 1P8 AVSS_11 (power), 1P10 AVSS_12 (power), 1P14 AVSS_13 (power), 1R8 AVSS_14 (power), 1R9 AVSS_15 (power), 1R11 AVSS_16 (power), 1R12 AVSS_17 (power), 1R13 AVSS_18 (power), 1R14 AVSS_19 (power), 1R15 AVSS_20 (power), 1T7 AVSS_21 (power), 1T8 AVSS_22 (power), 1T9 AVSS_23 (power), 1T10 AVSS_24 (power), 1T11 AVSS_25 (power), 1T12 AVSS_26 (power), 1T13 AVSS_27 (power), 1T14 AVSS_28 (power), 1T15 AVSS_29 (power), 1T16 AVSS_30 (power), 1T17 AVSS_31 (power), 1U12 AVSS_32 (power), 1U13 AVSS_33 (power), 1U15 AVSS_34 (power), 1U17 AVSS_35 (power), 1V7 AVSS_36 (power), 1V12 AVSS_37 (power), 1V13 AVSS_38 (power), 1V18 AVSS_39 (power), AP13 AVSS_1 (power), AP16 AVSS_2 (power), AP19 AVSS_3 (power), AP22 AVSS_4 (power), AP25 AVSS_5 (power), AP28 AVSS_6 (power), AP31 AVSS_7 (power), AP34 AVSS_8 (power), H37 AVSS1_1 (power), L37 AVSS1_2 (power), P37 AVSS1_3 (power), U37 AVSS1_4 (power), Y37 AVSS1_5 (power)
part H pins: 1B10 VSS_30 (power), 1B11 VSS_31 (power), 1B15 VSS_32 (power), 1B19 VSS_33 (power), 1C4 VSS_34 (power), 1C5 VSS_35 (power), 1C6 VSS_36 (power), 1C8 VSS_37 (power), 1C9 VSS_38 (power), 1C14 VSS_39 (power), 1C16 VSS_40 (power), 1C18 VSS_41 (power), 1D1 VSS_42 (power), 1D3 VSS_43 (power), 1D10 VSS_44 (power), 1D14 VSS_45 (power), 1E3 VSS_46 (power), 1E8 VSS_47 (power), 1E10 VSS_48 (power), 1E14 VSS_49 (power), 1E15 VSS_50 (power), 1E17 VSS_51 (power), 1F6 VSS_52 (power), 1F7 VSS_53 (power), 1F8 VSS_54 (power), 1F9 VSS_55 (power), 1F10 VSS_56 (power), 1F15 VSS_57 (power), 1F16 VSS_58 (power), 1G3 VSS_59 (power), 1G6 VSS_60 (power), 1G7 VSS_61 (power), 1G8 VSS_62 (power), 1G9 VSS_63 (power), 1G10 VSS_64 (power), 1G11 VSS_65 (power), 1G12 VSS_66 (power), A1 VSS_1 (power), A2 VSS_2 (power), A38 VSS_3 (power), AA2 VSS_18 (power), AC37 VSS_24 (power), AD2 VSS_19 (power), AE37 VSS_25 (power), AH37 VSS_26 (power), AL37 VSS_27 (power), AP2 VSS_20 (power), AP8 VSS_22 (power), AP37 VSS_28 (power), AR1 VSS_21 (power), AR38 VSS_29 (power), B1 VSS_4 (power), B2 VSS_5 (power), B6 VSS_6 (power), B11 VSS_7 (power), B14 VSS_8 (power), B18 VSS_9 (power), B21 VSS_10 (power), B28 VSS_11 (power), B31 VSS_12 (power), D2 VSS_13 (power), E37 VSS_23 (power), J2 VSS_14 (power), L2 VSS_15 (power), U2 VSS_16 (power), W2 VSS_17 (power)
part I pins: 1G14 VSS_67 (power), 1H1 VSS_68 (power), 1H2 VSS_69 (power), 1H6 VSS_70 (power), 1H11 VSS_71 (power), 1H12 VSS_72 (power), 1H13 VSS_73 (power), 1J1 VSS_74 (power), 1J6 VSS_75 (power), 1J8 VSS_76 (power), 1J9 VSS_77 (power), 1J11 VSS_78 (power), 1J12 VSS_79 (power), 1J13 VSS_80 (power), 1K2 VSS_81 (power), 1K3 VSS_82 (power), 1K4 VSS_83 (power), 1K5 VSS_84 (power), 1K6 VSS_85 (power), 1K8 VSS_86 (power), 1K9 VSS_87 (power), 1K11 VSS_88 (power), 1K12 VSS_89 (power), 1K13 VSS_90 (power), 1K14 VSS_91 (power), 1K15 VSS_92 (power), 1L3 VSS_93 (power), 1L6 VSS_94 (power), 1L10 VSS_95 (power), 1L11 VSS_96 (power), 1L12 VSS_97 (power), 1L13 VSS_98 (power), 1L14 VSS_99 (power), 1L15 VSS_100 (power), 1M3 VSS_101 (power), 1M4 VSS_102 (power), 1M5 VSS_103 (power), 1M6 VSS_104 (power), 1M10 VSS_105 (power), 1M11 VSS_106 (power), 1M12 VSS_107 (power), 1M13 VSS_108 (power), 1M14 VSS_109 (power), 1M15 VSS_110 (power), 1M16 VSS_111 (power), 1M17 VSS_112 (power), 1M20 VSS_113 (power), 1N3 VSS_114 (power), 1N4 VSS_115 (power), 1N7 VSS_116 (power), 1P1 VSS_117 (power), 1P5 VSS_118 (power), 1P6 VSS_119 (power), 1P7 VSS_120 (power), 1P15 VSS_121 (power), 1R3 VSS_122 (power), 1R4 VSS_123 (power), 1R5 VSS_124 (power), 1R6 VSS_125 (power), 1R7 VSS_126 (power), 1T3 VSS_127 (power), 1T5 VSS_128 (power), 1U2 VSS_129 (power), 1V1 VSS_130 (power), 1V4 VSS_131 (power)

## RTL8211F-CG
designator U?
GbE PHY with RGMIII interface & EEE feature (Switch Regulator), QFN40; MF: Realtek Semiconductor Corp; MP: RTL8211F-CG; SnapEDA_Link: https://www.snapeda.com/parts/RTL8211F-CG/Realtek/view-part/?ref=snap; Package: None; Value: *; Check_prices: https://www.snapeda.com/parts/RTL8211F-CG/Realtek/view-part/?ref=eda
footprint QFN40P500X500X90-41N
pins: 1 MDIP0 (io), 2 MDIN0 (io), 3 AVDD10 (power), 4 MDIP1 (io), 5 MDIN1 (io), 6 MDIP2 (io), 7 MDIN2 (io), 8 AVDD10 (power), 9 MDIP3 (io), 10 MDIN3 (io), 11 AVDD33 (power), 12 PHYRSTB (in), 13 MDC (in), 14 MDIO (io), 15 TXD3 (in), 16 TXD2 (in), 17 TXD1 (in), 18 TXD0 (in), 19 TXCTL (in), 20 TXC (in), 21 DVDD10 (power), 22 RXD3/PHYAD0 (io), 23 RXD2/PLLOFF (io), 24 RXD1/TXDLY (io), 25 RXD0/RXDLY (io), 26 RXCTL/PHYAD2 (io), 27 RXC/PHYAD1 (io), 28 DVDD_RG (power), 29 DVDD33 (power), 30 REG_OUT (out), 31 INTB/PMEB (out), 32 LED0/CFG_EXT (io), 33 LED1/CFG_LDO0 (io), 34 LED2/CFG_LDO1 (io), 35 CLKOUT (out), 36 XTAL_IN (in), 37 XTAL_OUT/EXT_CLK (out), 38 AVDD10 (power), 39 RSET (out), 40 AVDD33 (power), 41 GND (power)

## SCH16T-K10-10
designator U?
Inertial measurement unit; Manufacturer Part Number 1: SCH16T-K10-10
footprint SCH16T-K10-10 (SOP, 24-Leads, Body 11.80x9.80mm, Pitch 0.80mm, IPC High Density)
pins: 1 HEATSINK, 2 NC, 3 TA9, 4 TA8, 5 RESERVED, 6 EXTRESN, 7 RESERVED, 8 V3P3, 9 GND, 10 VREGA2, 11 VREGA, 12 GND, 13 GND, 14 VREGD2, 15 VREGD, 16 GND, 17 V3P3, 18 VDDIO, 19 MISO, 20 DRY_SYNC, 21 SCK, 22 CS, 23 MOSI, 24 HEATSINK

## SM02B-SRSS-TB
designator J?  (value not drawn)
JST-SH 2P; Manufacturer Part Number 1: SM02B-SRSS-TB
footprint SM02B-SRSS-TB
pins: 1, 2

## SM03B-SRSS-TB
designator J?  (value not drawn)
JST-SH 3P; Manufacturer Part Number 1: SM03B-SRSS-TB
footprint SM03B-SRSS-TB (SMD, 3-Leads, Body 5x4.25mm, Pitch 1mm)
pins: 1, 2, 3

## SM04B-SRSS-TB
designator J?  (value not drawn)
JST-SH 4P; Manufacturer Part Number 1: SM04B-SRSS-TB
footprint SM04B-SRSS-TB
pins: 1, 2, 3, 4

## SM05B-SRSS-TB
designator J?  (value not drawn)
JST-SH 5P; Manufacturer Part Number 1: SM05B-SRSS-TB
footprint SM05B-SRSS-TB
pins: 1, 2, 3, 4, 5

## SM06B-SRSS-TB
designator J?  (value not drawn)
JST-SH 6P; Manufacturer Part Number 1: SM06B-SRSS-TB
footprint SM06B-SRSS-TB
pins: 1, 2, 3, 4, 5, 6

## STM32G030F6P6
designator U?
MCU 64MHz 32KB 8KB; Manufacturer: STMicroelectronics; Max Supply Voltage: 3.6V; Interface: I2C,SPI,USART,LIN,IrDA,I2S,SMBus; Memory Size: 32KBytes; Number Of I/Os: 17; Number Of Timers/Counters: 6; Core Architecture: ARM Cortex-M0+; Number Of Pwm Channels: 11; Standoff Height: 0.05mm; Number Of A/D Converters: 1; Number Of I2C Channels: 2; Data Bus Width: 32bits; Ram Size: 8KBytes; Max Junction Temp: +105°C; Number Of Spi Channels: 3; Min Supply Voltage: 2V; Number Of Adc Channels: 16; Memory Type: FLASH; Ambient Temperature Range Low: -40°C; ComponentLink2URL: https://www.st.com/resource/en/datasheet/stm32g030f6.pdf; Temperature Range Low: -40°C; Automotive: No; Device Class L1: Integrated Circuits (ICs); Category: IC; Temperature Range High: +85°C; ComponentLink2Description: Datasheet; Device Class L2: Embedded Processors and Controllers; Manufacturer Part Number 1: STM32G030F6P6; Height: 1.2mm; Ambient Temperature Range High: +85°C; Octopart: https://octopart.com/stm32g030f6p6-stmicroelectronics-103773023; Package: TSSOP20-YA; Temperature: -40°C to +85°C; Lead Free: Yes; Device Class L3: Microcontrollers; Number Of Uart Channels: 2; RoHS: TRUE; Number Of Cores: 1; Digikey Description: ARM MICROCONTROLLERS - MCU; Frequency: 64MHz
footprint STM32G030F6P6
pins: 1 PB7/PB8 (io), 2 PB9/PC14-OSC32 IN (io), 3 PC15-OSC32 OUT (io), 4 VDD/VDDA (power), 5 VSS/VSSA (power), 6 ~{RST} (in), 7 PA0 (io), 8 PA1 (io), 9 PA2 (io), 10 PA3 (io), 11 PA4 (io), 12 PA5 (io), 13 PA6 (io), 14 PA7 (io), 15 PB0/PB1/PB2/PA8 (io), 16 PA11[PA9] (io), 17 PA12[PA10] (io), 18 PA13 (io), 19 PA15/PA14-BOOT0 (io), 20 PB3/PB4/PB5/PB6 (io)

## STM32G031F8P6
designator U?
MCU 64MHz 64KB 8KB; ComponentLink2URL: https://www.st.com/resource/en/datasheet/stm32g030f6.pdf; ComponentLink2Description: Datasheet; Manufacturer Part Number 1: STM32G031F8P6
footprint STM32G031F8P6
pins: 1 PB7/PB8 (io), 2 PB9/PC14-OSC32 IN (io), 3 PC15-OSC32 OUT (io), 4 VDD/VDDA (power), 5 VSS/VSSA (power), 6 ~{RST} (in), 7 PA0 (io), 8 PA1 (io), 9 PA2 (io), 10 PA3 (io), 11 PA4 (io), 12 PA5 (io), 13 PA6 (io), 14 PA7 (io), 15 PB0/PB1/PB2/PA8 (io), 16 PA11[PA9] (io), 17 PA12[PA10] (io), 18 PA13 (io), 19 PA15/PA14-BOOT0 (io), 20 PB3/PB4/PB5/PB6 (io)

## W25Q128JVSIQ
designator U?
FLASH - NOR Memory IC 128Mb (16M x 8) SPI - Quad I/O, QPI, DTR 133 MHz 8-SOIC; MF: Winbond Electronics; MP: W25Q128JVSIQ; SnapEDA_Link: https://www.snapeda.com/parts/W25Q128JVSIQ/Winbond/view-part/?ref=snap; Package: SOIC-8 Winbond Electronics; Check_prices: https://www.snapeda.com/parts/W25Q128JVSIQ/Winbond/view-part/?ref=eda; Manufacturer Part Number 1: W25Q128JVSIQ
footprint W25Q128JVSIQ
pins: 1 /CS (in), 2 DO(IO1) (io), 3 /WP(IO2) (io), 4 GND (power), 5 DI(IO0) (io), 6 CLK (in), 7 /HOLD/RESET(IO3) (io), 8 VCC (power)